# Altium schematic symbol library Header_40P_RPI_1.Schlib: 1 symbol
Pins are listed as number, name and electrical type; pins without a type are passive.

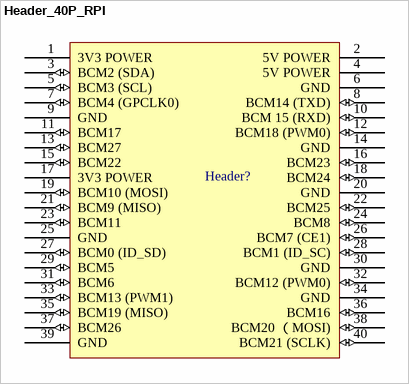
[diagram p0: symbol Header_40P_RPI]

## Header_40P_RPI
designator Header?
footprint Header_40P _Staggered
pins: 1 3V3 POWER (power), 2 5V POWER (power), 3 BCM2 (SDA) (io), 4 5V POWER (power), 5 BCM3 (SCL) (io), 6 GND (power), 7 BCM4 (GPCLK0) (io), 8 BCM14 (TXD) (io), 9 GND (power), 10 BCM 15 (RXD) (io), 11 BCM17 (io), 12 BCM18 (PWM0) (io), 13 BCM27 (io), 14 GND (power), 15 BCM22 (io), 16 BCM23 (io), 17 3V3 POWER (power), 18 BCM24 (io), 19 BCM10 (MOSI) (io), 20 GND (power), 21 BCM9 (MISO) (io), 22 BCM25 (io), 23 BCM11 (io), 24 BCM8 (io), 25 GND (power), 26 BCM7 (CE1) (io), 27 BCM0 (ID_SD) (io), 28 BCM1 (ID_SC) (io), 29 BCM5 (io), 30 GND (power), 31 BCM6 (io), 32 BCM12 (PWM0) (io), 33 BCM13 (PWM1) (io), 34 GND (power), 35 BCM19 (MISO) (io), 36 BCM16 (io), 37 BCM26 (io), 38 BCM20 （MOSI) (io), 39 GND (power), 40 BCM21 (SCLK) (io)